# EAGLE library part ADM3050EBRIZ-RL (library ADM3050EBRIZ-RL)
CAN Interface IC 5.7kV Isolated CAN-FD Transceiver Source: Datasheet
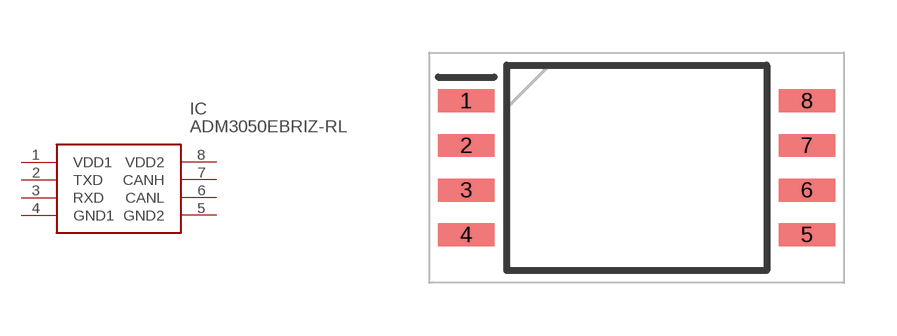
[diagram p0: symbol with the pads of SOIC127P1031X265-8N; footprint SOIC127P1031X265-8N]

Designator prefix IC

## ADM3050EBRIZ-RL (Description: CAN Interface IC 5.7kV Isolated CAN-FD Transceiver; Height: 2.65mm; Manufacturer_Name: Analog Devices; Manufacturer_Part_Number: ADM3050EBRIZ-RL; Mouser_Part_Number: 584-ADM3050EBRIZ-RL; Mouser_Price-Stock: https://www.mouser.co.uk/ProductDetail/Analog-Devices/ADM3050EBRIZ-RL?qs=P1JMDcb91o4s7Ze1qAlqDQ%3D%3D)  [SOIC127P1031X265-8N]
1  VDD1  pwr
2  TXD  in
3  RXD  out
4  GND1  pwr
5  GND2  pwr
6  CANL
7  CANH
8  VDD2  pwr

## Footprint SOIC127P1031X265-8N (pad centres in mm)
RI-8-1-IC
smd 1.6 x 0.65: 1 -4.85,1.905; 2 -4.85,0.635; 3 -4.85,-0.635; 4 -4.85,-1.905; 5 4.85,-1.905; 6 4.85,-0.635; 7 4.85,0.635; 8 4.85,1.905